# EAGLE library part PORT_PAD_SMD_SIDE (library iridia)
Connector pad for soldering side boards on side board of IRIDIA TAM
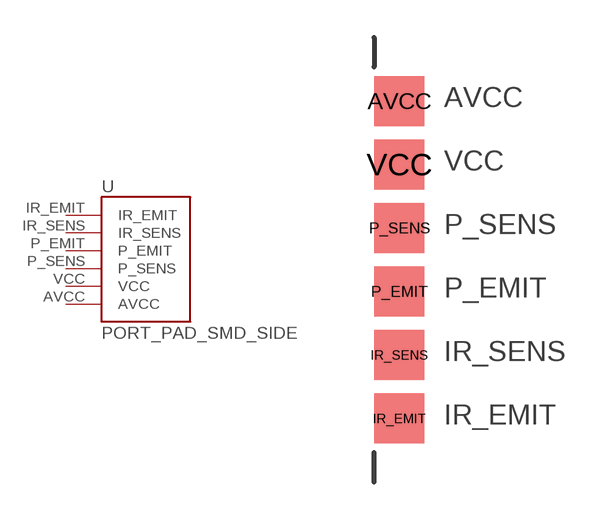
[diagram p3: symbol with the pads of PORT_PAD_SMD_SIDE; footprint PORT_PAD_SMD_SIDE]

Designator prefix -

## PORT_PAD_SMD_SIDE  [PORT_PAD_SMD_SIDE]
AVCC  AVCC
IR_EMIT  IR_EMIT
IR_SENS  IR_SENS
P_EMIT  P_EMIT
P_SENS  P_SENS
VCC  VCC

## Footprint PORT_PAD_SMD_SIDE (pad centres in mm)
smd 2 x 2: AVCC 0,6.35; IR_EMIT 0,-6.35; IR_SENS 0,-3.81; P_EMIT 0,-1.27; P_SENS 0,1.27; VCC 0,3.81